# Altium integrated library ST Microprocessor 16-Bit.IntLib: 11 symbols
Pins are listed as number, name and electrical type; pins without a type are passive.

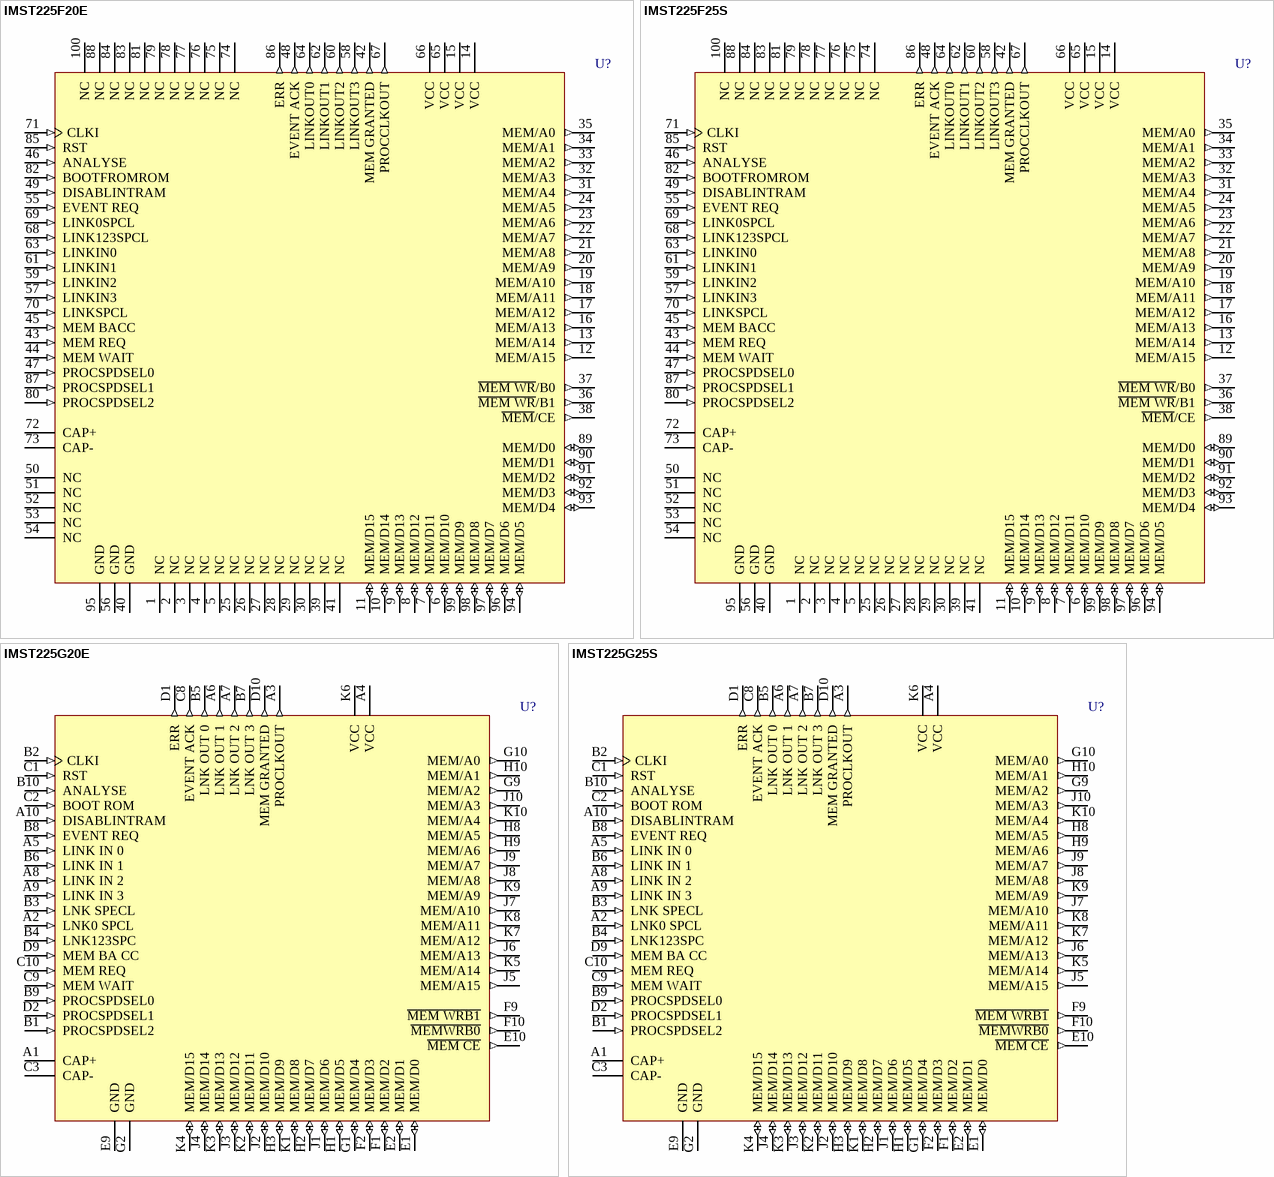
[diagram p0: symbols IMST225F20E to IMST225G25S]

## IMST225F20E
designator U?
16-Bit Transputer-Extended Temperature; PackageDocument: revC, Mar-1993; Published: 24-Aug-2001; LatestRevisionDate: 6-Jun-2005; LatestRevisionNote: Stylized 3D Model Added.; DatasheetDocument: Feb-1997; PackageReference: CQFP100; Publisher: Altium Limited; ComponentLink1Description: Manufacturer Link; ComponentLink1URL: http://www.st.com/
footprint CQFP100 (QFP, Ceramic; 100 Leads; Body 14 x 20 mm; Pitch 0.65 mm)
3D model IMST225-CQFP100 (QFP, Ceramic; 100 Leads; Body 14 x 20 mm; Pitch 0.65 mm)
pins: 1 NC, 2 NC, 3 NC, 4 NC, 5 NC, 6 MEM/D10 (io), 7 MEM/D11 (io), 8 MEM/D12 (io), 9 MEM/D13 (io), 10 MEM/D14 (io), 11 MEM/D15 (io), 12 MEM/A15 (out), 13 MEM/A14 (out), 14 VCC (power), 15 VCC (power), 16 MEM/A13 (out), 17 MEM/A12 (out), 18 MEM/A11 (out), 19 MEM/A10 (out), 20 MEM/A9 (out), 21 MEM/A8 (out), 22 MEM/A7 (out), 23 MEM/A6 (out), 24 MEM/A5 (out), 25 NC, 26 NC, 27 NC, 28 NC, 29 NC, 30 NC, 31 MEM/A4 (out), 32 MEM/A3 (out), 33 MEM/A2 (out), 34 MEM/A1 (out), 35 MEM/A0 (out), 36 ~{MEM WR}/B1 (out), 37 ~{MEM WR}/B0 (out), 38 ~{MEM}/CE (out), 39 NC, 40 GND (power), 41 NC, 42 MEM GRANTED (out), 43 MEM REQ (in), 44 MEM WAIT (in), 45 MEM BACC (in), 46 ANALYSE (in), 47 PROCSPDSEL0 (in), 48 EVENT ACK (out), 49 DISABLINTRAM (in), 50 NC, 51 NC, 52 NC, 53 NC, 54 NC, 55 EVENT REQ (in), 56 GND (power), 57 LINKIN3 (in), 58 LINKOUT3 (out), 59 LINKIN2 (in), 60 LINKOUT2 (out), 61 LINKIN1 (in), 62 LINKOUT1 (out), 63 LINKIN0 (in), 64 LINKOUT0 (out), 65 VCC (power), 66 VCC (power), 67 PROCCLKOUT (out), 68 LINK123SPCL (in), 69 LINK0SPCL (in), 70 LINKSPCL (in), 71 CLKI (in), 72 CAP+, 73 CAP-, 74 NC, 75 NC, 76 NC, 77 NC, 78 NC, 79 NC, 80 PROCSPDSEL2 (in), 81 NC, 82 BOOTFROMROM (in), 83 NC, 84 NC, 85 RST (in), 86 ERR (out), 87 PROCSPDSEL1 (in), 88 NC, 89 MEM/D0 (io), 90 MEM/D1 (io), 91 MEM/D2 (io), 92 MEM/D3 (io), 93 MEM/D4 (io), 94 MEM/D5 (io), 95 GND (power), 96 MEM/D6 (io), 97 MEM/D7 (io), 98 MEM/D8 (io), 99 MEM/D9 (io), 100 NC

## IMST225F25S
designator U?
16-Bit Transputer; PackageDocument: revC, Mar-1993; Published: 24-Aug-2001; LatestRevisionDate: 6-Jun-2005; LatestRevisionNote: Stylized 3D Model Added.; DatasheetDocument: Feb-1997; PackageReference: CQFP100; Publisher: Altium Limited; ComponentLink1Description: Manufacturer Link; ComponentLink1URL: http://www.st.com/
footprint CQFP100 (QFP, Ceramic; 100 Leads; Body 14 x 20 mm; Pitch 0.65 mm)
3D model IMST225-CQFP100 (QFP, Ceramic; 100 Leads; Body 14 x 20 mm; Pitch 0.65 mm)
pins: 1 NC, 2 NC, 3 NC, 4 NC, 5 NC, 6 MEM/D10 (io), 7 MEM/D11 (io), 8 MEM/D12 (io), 9 MEM/D13 (io), 10 MEM/D14 (io), 11 MEM/D15 (io), 12 MEM/A15 (out), 13 MEM/A14 (out), 14 VCC (power), 15 VCC (power), 16 MEM/A13 (out), 17 MEM/A12 (out), 18 MEM/A11 (out), 19 MEM/A10 (out), 20 MEM/A9 (out), 21 MEM/A8 (out), 22 MEM/A7 (out), 23 MEM/A6 (out), 24 MEM/A5 (out), 25 NC, 26 NC, 27 NC, 28 NC, 29 NC, 30 NC, 31 MEM/A4 (out), 32 MEM/A3 (out), 33 MEM/A2 (out), 34 MEM/A1 (out), 35 MEM/A0 (out), 36 ~{MEM WR}/B1 (out), 37 ~{MEM WR}/B0 (out), 38 ~{MEM}/CE (out), 39 NC, 40 GND (power), 41 NC, 42 MEM GRANTED (out), 43 MEM REQ (in), 44 MEM WAIT (in), 45 MEM BACC (in), 46 ANALYSE (in), 47 PROCSPDSEL0 (in), 48 EVENT ACK (out), 49 DISABLINTRAM (in), 50 NC, 51 NC, 52 NC, 53 NC, 54 NC, 55 EVENT REQ (in), 56 GND (power), 57 LINKIN3 (in), 58 LINKOUT3 (out), 59 LINKIN2 (in), 60 LINKOUT2 (out), 61 LINKIN1 (in), 62 LINKOUT1 (out), 63 LINKIN0 (in), 64 LINKOUT0 (out), 65 VCC (power), 66 VCC (power), 67 PROCCLKOUT (out), 68 LINK123SPCL (in), 69 LINK0SPCL (in), 70 LINKSPCL (in), 71 CLKI (in), 72 CAP+, 73 CAP-, 74 NC, 75 NC, 76 NC, 77 NC, 78 NC, 79 NC, 80 PROCSPDSEL2 (in), 81 NC, 82 BOOTFROMROM (in), 83 NC, 84 NC, 85 RST (in), 86 ERR (out), 87 PROCSPDSEL1 (in), 88 NC, 89 MEM/D0 (io), 90 MEM/D1 (io), 91 MEM/D2 (io), 92 MEM/D3 (io), 93 MEM/D4 (io), 94 MEM/D5 (io), 95 GND (power), 96 MEM/D6 (io), 97 MEM/D7 (io), 98 MEM/D8 (io), 99 MEM/D9 (io), 100 NC

## IMST225G20E
designator U?
16-Bit Transputer-Extended Temperature; PackageDocument: 1993; Published: 24-Aug-2001; LatestRevisionDate: 6-Jun-2005; LatestRevisionNote: Stylized 3D Model Added.; DatasheetDocument: Feb-1997; PackageReference: CPGA68; Publisher: Altium Limited; ComponentLink1Description: Manufacturer Link; ComponentLink1URL: http://www.st.com/
footprint CPGA68 (PGA; 68 Leads; Body 27 x 27 mm; Plain Grid)
3D model IMST225-CPGA68 (PGA; 68 Leads; Body 27 x 27 mm; Plain Grid)
pins: A1 CAP+, A2 LNK0 SPCL (in), A3 PROCLKOUT (out), A4 VCC (power), A5 LINK IN 0 (in), A6 LNK OUT 1 (out), A7 LNK OUT 2 (out), A8 LINK IN 2 (in), A9 LINK IN 3 (in), A10 DISABLINTRAM (in), B1 PROCSPDSEL2 (in), B2 CLKI (in), B3 LNK SPECL (in), B4 LNK123SPC (in), B5 LNK OUT 0 (out), B6 LINK IN 1 (in), B7 LNK OUT 3 (out), B8 EVENT REQ (in), B9 PROCSPDSEL0 (in), B10 ANALYSE (in), C1 RST (in), C2 BOOT ROM (in), C3 CAP-, C8 EVENT ACK (out), C9 MEM WAIT (in), C10 MEM REQ (in), D1 ERR (out), D2 PROCSPDSEL1 (in), D9 MEM BA CC (in), D10 MEM GRANTED (out), E1 MEM/D0 (io), E2 MEM/D1 (io), E9 GND (power), E10 ~{MEM CE} (out), F1 MEM/D2 (io), F2 MEM/D3 (io), F9 ~{MEM WRB1} (out), F10 ~{MEMWRB0} (out), G1 MEM/D4 (io), G2 GND (power), G9 MEM/A2 (out), G10 MEM/A0 (out), H1 MEM/D5 (io), H2 MEM/D7 (io), H3 MEM/D9 (io), H8 MEM/A5 (out), H9 MEM/A6 (out), H10 MEM/A1 (out), J1 MEM/D6 (io), J2 MEM/D10 (io), J3 MEM/D12 (io), J4 MEM/D14 (io), J5 MEM/A15 (out), J6 MEM/A13 (out), J7 MEM/A10 (out), J8 MEM/A8 (out), J9 MEM/A7 (out), J10 MEM/A3 (out), K1 MEM/D8 (io), K2 MEM/D11 (io), K3 MEM/D13 (io), K4 MEM/D15 (io), K5 MEM/A14 (out), K6 VCC (power), K7 MEM/A12 (out), K8 MEM/A11 (out), K9 MEM/A9 (out), K10 MEM/A4 (out)

## IMST225G25S
designator U?
16-Bit Transputer; PackageDocument: 1993; Published: 24-Aug-2001; LatestRevisionDate: 6-Jun-2005; LatestRevisionNote: Stylized 3D Model Added.; DatasheetDocument: Feb-1997; PackageReference: CPGA68; Publisher: Altium Limited; ComponentLink1Description: Manufacturer Link; ComponentLink1URL: http://www.st.com/
footprint CPGA68 (PGA; 68 Leads; Body 27 x 27 mm; Plain Grid)
3D model IMST225-CPGA68 (PGA; 68 Leads; Body 27 x 27 mm; Plain Grid)
pins: A1 CAP+, A2 LNK0 SPCL (in), A3 PROCLKOUT (out), A4 VCC (power), A5 LINK IN 0 (in), A6 LNK OUT 1 (out), A7 LNK OUT 2 (out), A8 LINK IN 2 (in), A9 LINK IN 3 (in), A10 DISABLINTRAM (in), B1 PROCSPDSEL2 (in), B2 CLKI (in), B3 LNK SPECL (in), B4 LNK123SPC (in), B5 LNK OUT 0 (out), B6 LINK IN 1 (in), B7 LNK OUT 3 (out), B8 EVENT REQ (in), B9 PROCSPDSEL0 (in), B10 ANALYSE (in), C1 RST (in), C2 BOOT ROM (in), C3 CAP-, C8 EVENT ACK (out), C9 MEM WAIT (in), C10 MEM REQ (in), D1 ERR (out), D2 PROCSPDSEL1 (in), D9 MEM BA CC (in), D10 MEM GRANTED (out), E1 MEM/D0 (io), E2 MEM/D1 (io), E9 GND (power), E10 ~{MEM CE} (out), F1 MEM/D2 (io), F2 MEM/D3 (io), F9 ~{MEM WRB1} (out), F10 ~{MEMWRB0} (out), G1 MEM/D4 (io), G2 GND (power), G9 MEM/A2 (out), G10 MEM/A0 (out), H1 MEM/D5 (io), H2 MEM/D7 (io), H3 MEM/D9 (io), H8 MEM/A5 (out), H9 MEM/A6 (out), H10 MEM/A1 (out), J1 MEM/D6 (io), J2 MEM/D10 (io), J3 MEM/D12 (io), J4 MEM/D14 (io), J5 MEM/A15 (out), J6 MEM/A13 (out), J7 MEM/A10 (out), J8 MEM/A8 (out), J9 MEM/A7 (out), J10 MEM/A3 (out), K1 MEM/D8 (io), K2 MEM/D11 (io), K3 MEM/D13 (io), K4 MEM/D15 (io), K5 MEM/A14 (out), K6 VCC (power), K7 MEM/A12 (out), K8 MEM/A11 (out), K9 MEM/A9 (out), K10 MEM/A4 (out)

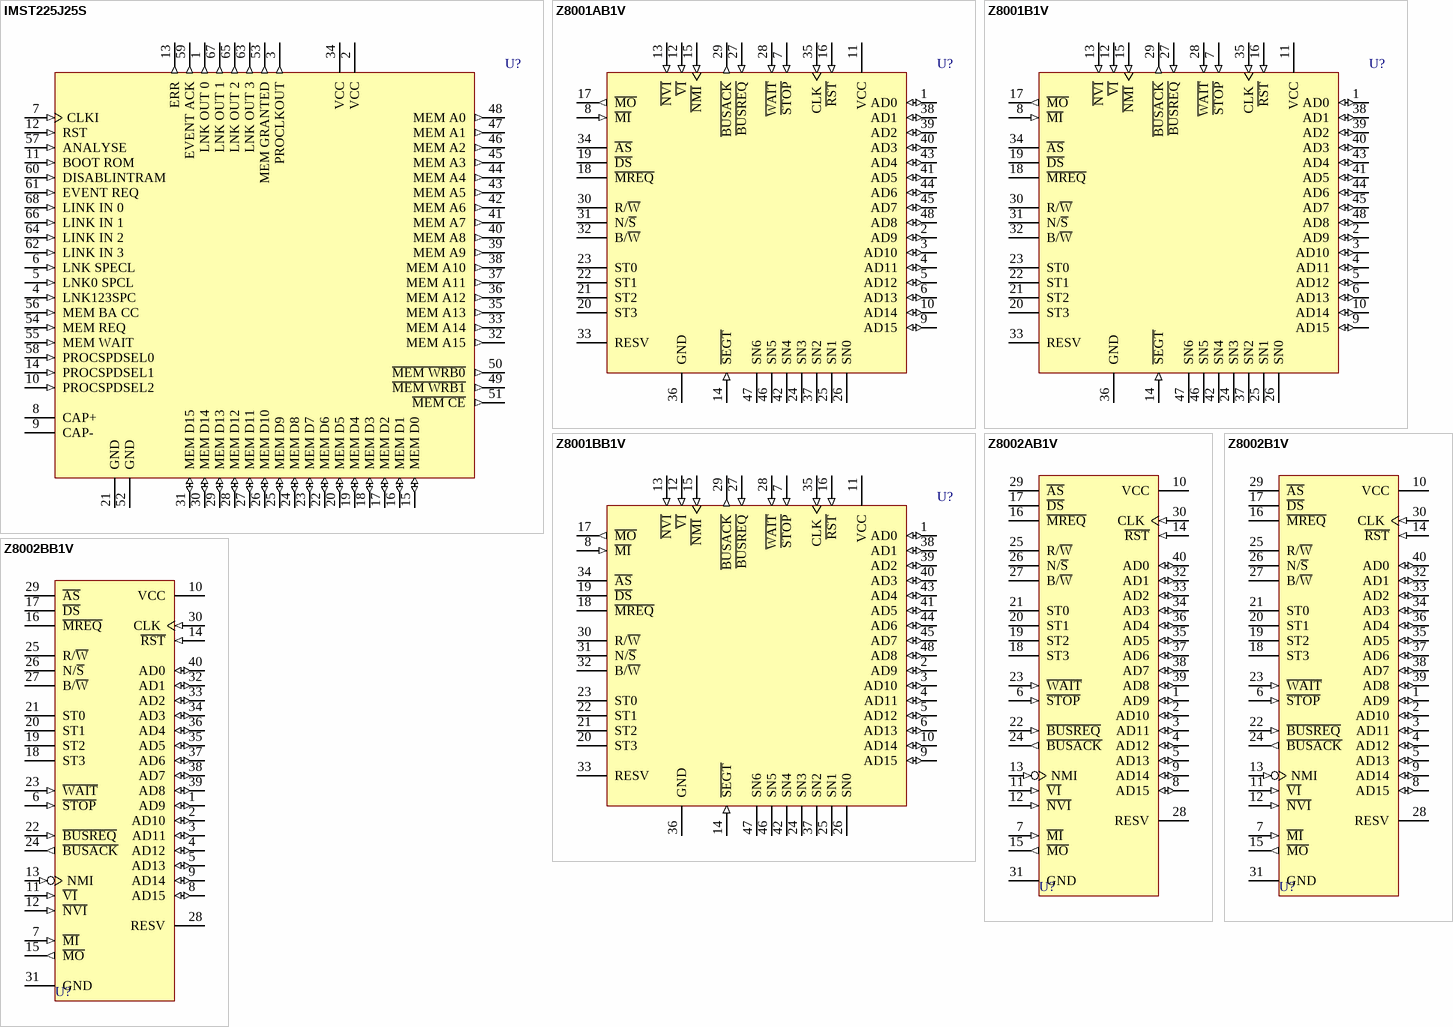
[diagram p1: symbols IMST225J25S to Z8002BB1V]

## IMST225J25S
designator U?
16-Bit Transputer; Published: 24-Aug-2001; LatestRevisionDate: 6-Jun-2005; LatestRevisionNote: Stylized 3D Model Added.; DatasheetDocument: Feb-1997; PackageReference: PLCC68; Publisher: Altium Limited; ComponentLink1Description: Manufacturer Link; ComponentLink1URL: http://www.st.com/
footprint PLCC68 (Leaded Chip Carrier; 68 Leads; Body 24.3 x 24.3 mm)
3D model IMST225-PLCC68 (Leaded Chip Carrier; 68 Leads; Body 24.3 x 24.3 mm)
pins: 1 LNK OUT 0 (out), 2 VCC (power), 3 PROCLKOUT (out), 4 LNK123SPC (in), 5 LNK0 SPCL (in), 6 LNK SPECL (in), 7 CLKI (in), 8 CAP+, 9 CAP-, 10 PROCSPDSEL2 (in), 11 BOOT ROM (in), 12 RST (in), 13 ERR (out), 14 PROCSPDSEL1 (in), 15 MEM D0 (io), 16 MEM D1 (io), 17 MEM D2 (io), 18 MEM D3 (io), 19 MEM D4 (io), 20 MEM D5 (io), 21 GND (power), 22 MEM D6 (io), 23 MEM D7 (io), 24 MEM D8 (io), 25 MEM D9 (io), 26 MEM D10 (io), 27 MEM D11 (io), 28 MEM D12 (io), 29 MEM D13 (io), 30 MEM D14 (io), 31 MEM D15 (io), 32 MEM A15 (out), 33 MEM A14 (out), 34 VCC (power), 35 MEM A13 (out), 36 MEM A12 (out), 37 MEM A11 (out), 38 MEM A10 (out), 39 MEM A9 (out), 40 MEM A8 (out), 41 MEM A7 (out), 42 MEM A6 (out), 43 MEM A5 (out), 44 MEM A4 (out), 45 MEM A3 (out), 46 MEM A2 (out), 47 MEM A1 (out), 48 MEM A0 (out), 49 ~{MEM WRB1} (out), 50 ~{MEM WRB0} (out), 51 ~{MEM CE} (out), 52 GND (power), 53 MEM GRANTED (out), 54 MEM REQ (in), 55 MEM WAIT (in), 56 MEM BA CC (in), 57 ANALYSE (in), 58 PROCSPDSEL0 (in), 59 EVENT ACK (out), 60 DISABLINTRAM (in), 61 EVENT REQ (in), 62 LINK IN 3 (in), 63 LNK OUT 3 (out), 64 LINK IN 2 (in), 65 LNK OUT 2 (out), 66 LINK IN 1 (in), 67 LNK OUT 1 (out), 68 LINK IN 0 (in)

## Z8001AB1V
designator U?
Central Processing Unit; Published: 24-Aug-2001; LatestRevisionDate: 6-Jun-2005; LatestRevisionNote: Stylized 3D Model Added.; DatasheetDocument: May-1991; PackageDocument: Feb-1995; PackageReference: PDIP48; Publisher: Altium Limited; ComponentLink1Description: Manufacturer Link; ComponentLink1URL: http://www.st.com/
footprint PDIP48 (DIP, Plastic; 48 Leads; Row Spacing 15.24 mm; Pitch 2.54 mm)
3D model PDIP48 (DIP, Plastic; 48 Leads; Row Spacing 15.24 mm; Pitch 2.54 mm)
pins: 1 AD0 (io), 2 AD9 (io), 3 AD10 (io), 4 AD11 (io), 5 AD12 (io), 6 AD13 (io), 7 ~{STOP} (in), 8 ~{MI} (in), 9 AD15 (io), 10 AD14 (io), 11 VCC (power), 12 ~{VI} (in), 13 ~{NVI} (in), 14 ~{SEGT} (in), 15 ~{NMI} (in), 16 ~{RST} (in), 17 ~{MO} (out), 18 ~{MREQ} (hiz), 19 ~{DS} (hiz), 20 ST3 (hiz), 21 ST2 (hiz), 22 ST1 (hiz), 23 ST0 (hiz), 24 SN3 (hiz), 25 SN1 (hiz), 26 SN0 (hiz), 27 ~{BUSREQ} (in), 28 ~{WAIT} (in), 29 ~{BUSACK} (out), 30 R/~{W} (hiz), 31 N/~{S} (hiz), 32 B/~{W} (hiz), 33 RESV, 34 ~{AS} (hiz), 35 CLK (in), 36 GND (power), 37 SN2 (hiz), 38 AD1 (io), 39 AD2 (io), 40 AD3 (io), 41 AD5 (io), 42 SN4 (hiz), 43 AD4 (io), 44 AD6 (io), 45 AD7 (io), 46 SN5 (hiz), 47 SN6 (hiz), 48 AD8 (io)

## Z8001B1V
designator U?
Central Processing Unit; Published: 24-Aug-2001; LatestRevisionDate: 6-Jun-2005; LatestRevisionNote: Stylized 3D Model Added.; DatasheetDocument: May-1991; PackageDocument: Feb-1995; PackageReference: PDIP48; Publisher: Altium Limited; ComponentLink1Description: Manufacturer Link; ComponentLink1URL: http://www.st.com/
footprint PDIP48 (DIP, Plastic; 48 Leads; Row Spacing 15.24 mm; Pitch 2.54 mm)
3D model PDIP48 (DIP, Plastic; 48 Leads; Row Spacing 15.24 mm; Pitch 2.54 mm)
pins: 1 AD0 (io), 2 AD9 (io), 3 AD10 (io), 4 AD11 (io), 5 AD12 (io), 6 AD13 (io), 7 ~{STOP} (in), 8 ~{MI} (in), 9 AD15 (io), 10 AD14 (io), 11 VCC (power), 12 ~{VI} (in), 13 ~{NVI} (in), 14 ~{SEGT} (in), 15 ~{NMI} (in), 16 ~{RST} (in), 17 ~{MO} (out), 18 ~{MREQ} (hiz), 19 ~{DS} (hiz), 20 ST3 (hiz), 21 ST2 (hiz), 22 ST1 (hiz), 23 ST0 (hiz), 24 SN3 (hiz), 25 SN1 (hiz), 26 SN0 (hiz), 27 ~{BUSREQ} (in), 28 ~{WAIT} (in), 29 ~{BUSACK} (out), 30 R/~{W} (hiz), 31 N/~{S} (hiz), 32 B/~{W} (hiz), 33 RESV, 34 ~{AS} (hiz), 35 CLK (in), 36 GND (power), 37 SN2 (hiz), 38 AD1 (io), 39 AD2 (io), 40 AD3 (io), 41 AD5 (io), 42 SN4 (hiz), 43 AD4 (io), 44 AD6 (io), 45 AD7 (io), 46 SN5 (hiz), 47 SN6 (hiz), 48 AD8 (io)

## Z8001BB1V
designator U?
Central Processing Unit; Published: 24-Aug-2001; LatestRevisionDate: 6-Jun-2005; LatestRevisionNote: Stylized 3D Model Added.; DatasheetDocument: May-1991; PackageDocument: Feb-1995; PackageReference: PDIP48; Publisher: Altium Limited; ComponentLink1Description: Manufacturer Link; ComponentLink1URL: http://www.st.com/
footprint PDIP48 (DIP, Plastic; 48 Leads; Row Spacing 15.24 mm; Pitch 2.54 mm)
3D model PDIP48 (DIP, Plastic; 48 Leads; Row Spacing 15.24 mm; Pitch 2.54 mm)
pins: 1 AD0 (io), 2 AD9 (io), 3 AD10 (io), 4 AD11 (io), 5 AD12 (io), 6 AD13 (io), 7 ~{STOP} (in), 8 ~{MI} (in), 9 AD15 (io), 10 AD14 (io), 11 VCC (power), 12 ~{VI} (in), 13 ~{NVI} (in), 14 ~{SEGT} (in), 15 ~{NMI} (in), 16 ~{RST} (in), 17 ~{MO} (out), 18 ~{MREQ} (hiz), 19 ~{DS} (hiz), 20 ST3 (hiz), 21 ST2 (hiz), 22 ST1 (hiz), 23 ST0 (hiz), 24 SN3 (hiz), 25 SN1 (hiz), 26 SN0 (hiz), 27 ~{BUSREQ} (in), 28 ~{WAIT} (in), 29 ~{BUSACK} (out), 30 R/~{W} (hiz), 31 N/~{S} (hiz), 32 B/~{W} (hiz), 33 RESV, 34 ~{AS} (hiz), 35 CLK (in), 36 GND (power), 37 SN2 (hiz), 38 AD1 (io), 39 AD2 (io), 40 AD3 (io), 41 AD5 (io), 42 SN4 (hiz), 43 AD4 (io), 44 AD6 (io), 45 AD7 (io), 46 SN5 (hiz), 47 SN6 (hiz), 48 AD8 (io)

## Z8002AB1V
designator U?
Central Processing Unit; Published: 24-Aug-2001; LatestRevisionDate: 6-Jun-2005; LatestRevisionNote: Stylized 3D Model Added.; DatasheetDocument: May-1991; PackageDocument: Jun-1998; PackageReference: PDIP40; Publisher: Altium Limited; ComponentLink1Description: Manufacturer Link; ComponentLink1URL: http://www.st.com/
footprint PDIP40 (DIP, Plastic; 40 Leads; Row Spacing 15.24 mm; Pitch 2.54 mm)
3D model PDIP40 (DIP, Plastic; 40 Leads; Row Spacing 15.24 mm; Pitch 2.54 mm)
pins: 1 AD9 (io), 2 AD10 (io), 3 AD11 (io), 4 AD12 (io), 5 AD13 (io), 6 ~{STOP} (in), 7 ~{MI} (in), 8 AD15 (io), 9 AD14 (io), 10 VCC (power), 11 ~{VI} (in), 12 ~{NVI} (in), 13 NMI (in), 14 ~{RST} (in), 15 ~{MO} (out), 16 ~{MREQ} (hiz), 17 ~{DS} (hiz), 18 ST3 (hiz), 19 ST2 (hiz), 20 ST1 (hiz), 21 ST0 (hiz), 22 ~{BUSREQ} (in), 23 ~{WAIT} (in), 24 ~{BUSACK} (out), 25 R/~{W} (hiz), 26 N/~{S} (hiz), 27 B/~{W} (hiz), 28 RESV, 29 ~{AS} (hiz), 30 CLK (in), 31 GND (power), 32 AD1 (io), 33 AD2 (io), 34 AD3 (io), 35 AD5 (io), 36 AD4 (io), 37 AD6 (io), 38 AD7 (io), 39 AD8 (io), 40 AD0 (io)

## Z8002B1V
designator U?
Central Processing Unit; Published: 24-Aug-2001; LatestRevisionDate: 6-Jun-2005; LatestRevisionNote: Stylized 3D Model Added.; DatasheetDocument: May-1991; PackageDocument: Jun-1998; PackageReference: PDIP40; Publisher: Altium Limited; ComponentLink1Description: Manufacturer Link; ComponentLink1URL: http://www.st.com/
footprint PDIP40 (DIP, Plastic; 40 Leads; Row Spacing 15.24 mm; Pitch 2.54 mm)
3D model PDIP40 (DIP, Plastic; 40 Leads; Row Spacing 15.24 mm; Pitch 2.54 mm)
pins: 1 AD9 (io), 2 AD10 (io), 3 AD11 (io), 4 AD12 (io), 5 AD13 (io), 6 ~{STOP} (in), 7 ~{MI} (in), 8 AD15 (io), 9 AD14 (io), 10 VCC (power), 11 ~{VI} (in), 12 ~{NVI} (in), 13 NMI (in), 14 ~{RST} (in), 15 ~{MO} (out), 16 ~{MREQ} (hiz), 17 ~{DS} (hiz), 18 ST3 (hiz), 19 ST2 (hiz), 20 ST1 (hiz), 21 ST0 (hiz), 22 ~{BUSREQ} (in), 23 ~{WAIT} (in), 24 ~{BUSACK} (out), 25 R/~{W} (hiz), 26 N/~{S} (hiz), 27 B/~{W} (hiz), 28 RESV, 29 ~{AS} (hiz), 30 CLK (in), 31 GND (power), 32 AD1 (io), 33 AD2 (io), 34 AD3 (io), 35 AD5 (io), 36 AD4 (io), 37 AD6 (io), 38 AD7 (io), 39 AD8 (io), 40 AD0 (io)

## Z8002BB1V
designator U?
Central Processing Unit; Published: 24-Aug-2001; LatestRevisionDate: 6-Jun-2005; LatestRevisionNote: Stylized 3D Model Added.; DatasheetDocument: May-1991; PackageDocument: Jun-1998; PackageReference: PDIP40; Publisher: Altium Limited; ComponentLink1Description: Manufacturer Link; ComponentLink1URL: http://www.st.com/
footprint PDIP40 (DIP, Plastic; 40 Leads; Row Spacing 15.24 mm; Pitch 2.54 mm)
3D model PDIP40 (DIP, Plastic; 40 Leads; Row Spacing 15.24 mm; Pitch 2.54 mm)
pins: 1 AD9 (io), 2 AD10 (io), 3 AD11 (io), 4 AD12 (io), 5 AD13 (io), 6 ~{STOP} (in), 7 ~{MI} (in), 8 AD15 (io), 9 AD14 (io), 10 VCC (power), 11 ~{VI} (in), 12 ~{NVI} (in), 13 NMI (in), 14 ~{RST} (in), 15 ~{MO} (out), 16 ~{MREQ} (hiz), 17 ~{DS} (hiz), 18 ST3 (hiz), 19 ST2 (hiz), 20 ST1 (hiz), 21 ST0 (hiz), 22 ~{BUSREQ} (in), 23 ~{WAIT} (in), 24 ~{BUSACK} (out), 25 R/~{W} (hiz), 26 N/~{S} (hiz), 27 B/~{W} (hiz), 28 RESV, 29 ~{AS} (hiz), 30 CLK (in), 31 GND (power), 32 AD1 (io), 33 AD2 (io), 34 AD3 (io), 35 AD5 (io), 36 AD4 (io), 37 AD6 (io), 38 AD7 (io), 39 AD8 (io), 40 AD0 (io)